# EAGLE library part MMA8652FC (library jason_eagle6)
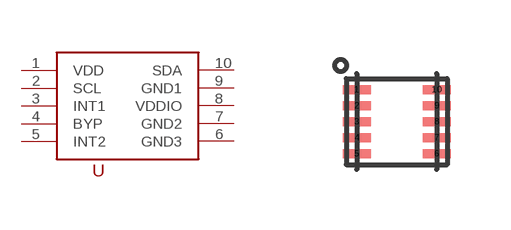
[diagram p49: symbol with the pads of DFN10_2X2; footprint DFN10_2X2]

Designator prefix -

## MMA8652FC  [DFN10_2X2]
1  VDD
2  SCL
3  INT1
4  BYP
5  INT2
6  GND3
7  GND2
8  VDDIO
9  GND1
10  SDA

## Footprint DFN10_2X2 (pad centres in mm)
smd 0.7 x 0.225: 1 -1,0.8; 2 -1,0.4; 3 -1,0; 4 -1,-0.4; 5 -1,-0.8; 6 1,-0.8; 7 1,-0.4; 8 1,0; 9 1,0.4; 10 1,0.8